# Altium footprint library Adams Altium Library.PcbLib: 250 footprints (part 13 of 16)
Each footprint in its own frame and in the unit in brackets; x right, y up, seen from the top. Pads: shape width x height; smd on the part's side, far side on the other; paste and mask are expansions set on the pad; w line width, h text height; cw(c..) or ccw(c..) is an arc to the next point about the centre after c.
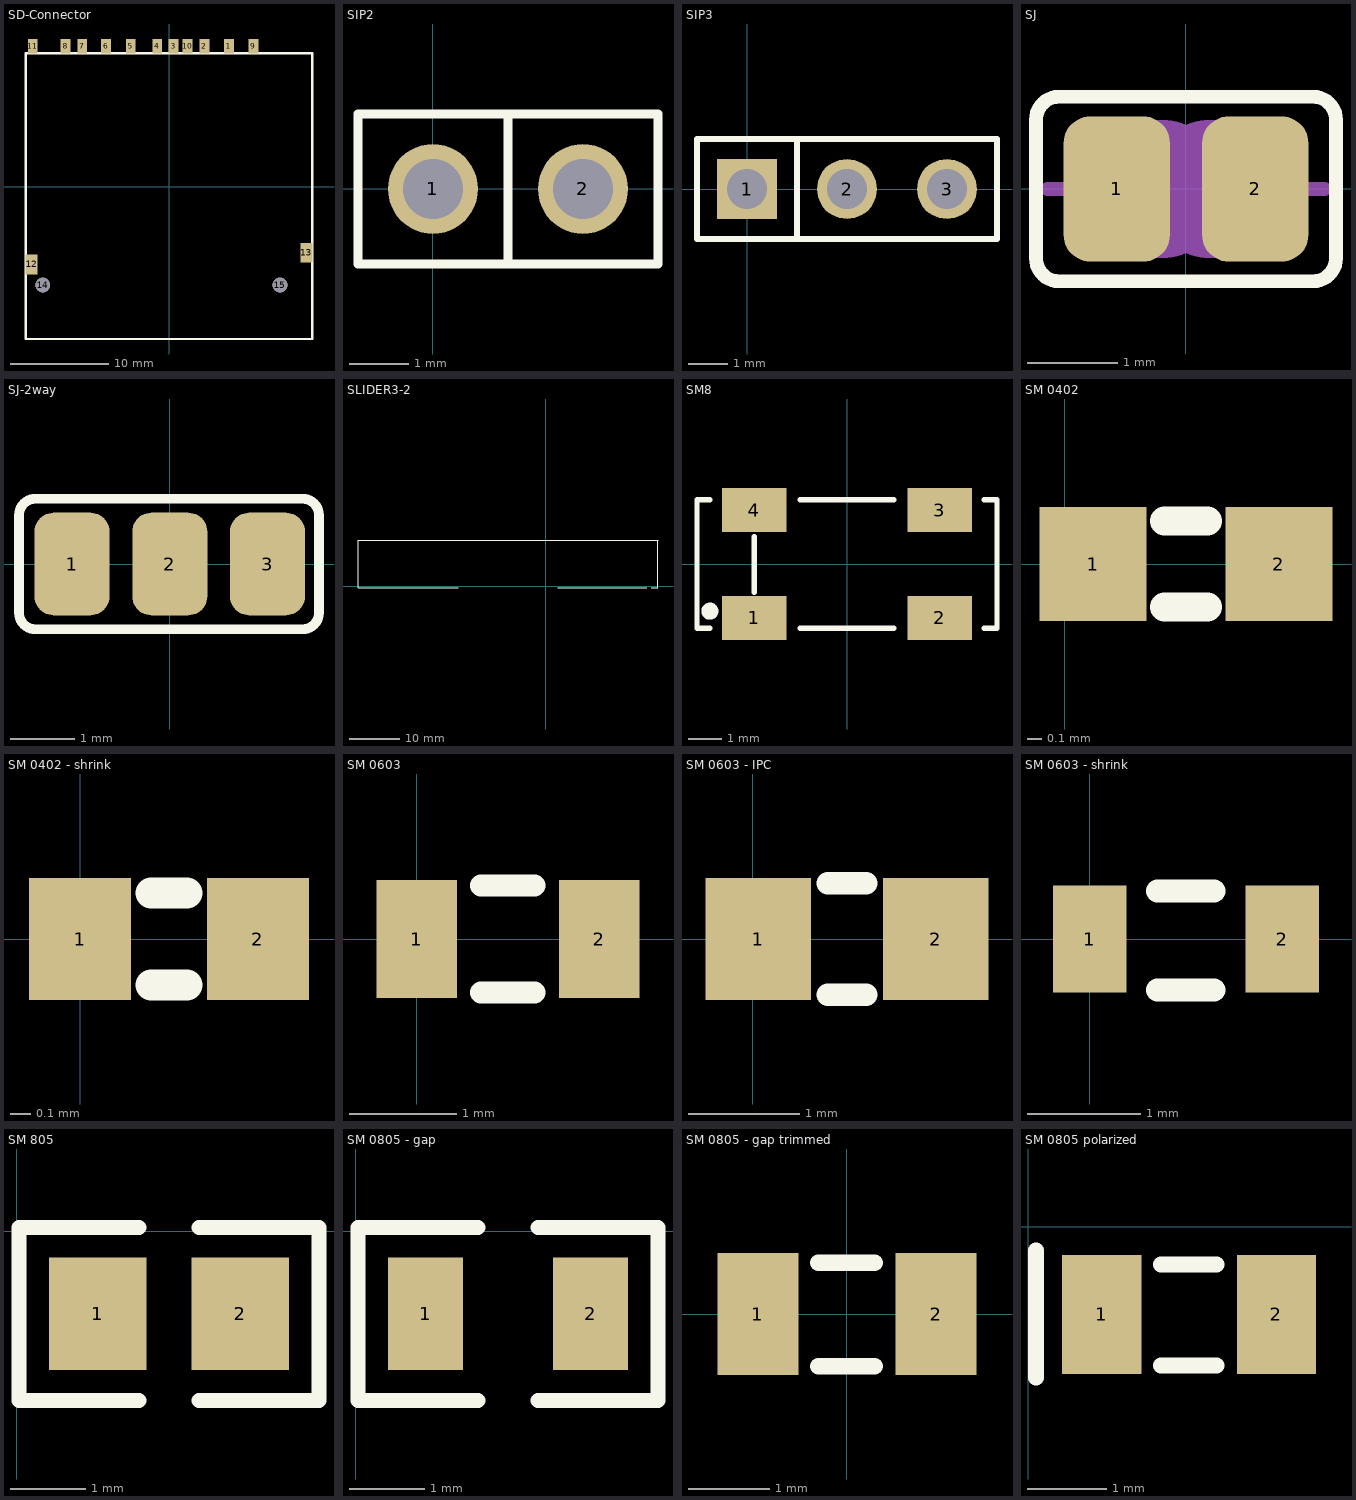
[diagram p12: the footprints below, top view; thin cyan lines are the x and y axes]

## SD-Connector [mm]
pads (15):
  rect 1x1.5 smd: 1(6.1,14.3) 2(3.6,14.3) 3(0.46,14.3) 4(-1.19,14.3) 5(-3.9,14.3) 6(-6.4,14.3) 7(-8.83,14.3) 8(-10.53,14.3) 9(8.6,14.3) 10(1.9,14.3) 11(-13.88,14.3)
  rect 1.2x2 smd: 12(-14,-7.91) 13(14,-6.71)
  round 1.5 hole 1.5 paste-99 mask-99: 14(-12.85,-10.01) 15(11.3,-10.01)
Top Overlay:
  lines w0.254: -14.6,-15.5 -14.6,13.6 14.6,13.6 14.6,-15.5 -14.6,-15.5
3D body: height 2.95, standoff 0, extent -14.727,-15.627 14.727,13.727

## SIP2 [mil]
pads (2):
  round 60 hole 40: 1(0,0) 2(100,0)
Top Overlay:
  lines w6: 50.04,-50.04 50.04,49.96 ; -49.96,-50.04 -49.96,49.96 150.04,49.96 150.04,-50.04 -49.96,-50.04

## SIP3 [mil]
pads (3):
  rect 60x60 hole 40: 1(0,0)
  round 60 hole 40: 2(100,0) 3(200,0)
Top Overlay:
  lines w6: 50,-50 50,50 ; -50,-50 250,-50 250,50 -50,50 -50,-50

## SJ [mil]
pads (2):
  rrect50% 46x63 smd: 1(-30,0) 2(30,0)
Top Overlay:
  lines w6: -65,-30 ccw(c-55,-30) -55,-40 55,-40 ccw(c55,-30) 65,-30 65,30 ccw(c55,30) 55,40 -55,40 ccw(c-55,30) -65,30 -65,-30
Top Solder:
  rectangle: -3,-36 3,36
Mechanical 16:
  lines w6: -60,0 -40,0 ; 40,0 60,0
  lines w50: -10,-5 cw(c-10,0) -10,5 ; 10,-5 ccw(c10,0) 10,5
3D body: height 3.94, standoff 0, extent 6.89,-31.5 53.15,30.51
3D body: height 3.94, standoff 0, extent -53.15,-30.51 -6.89,31.5

## SJ-2way [mil]
pads (3):
  rrect50% 46x63 smd: 1(-60,0) 2(0,0) 3(60,0)
Top Overlay:
  lines w6: -82.68,-40 80.71,-40 ; -82.68,40 80.71,40 ; -82.56,-40 cw(c-82.56,-30) -92.56,-30 -92.56,30 cw(c-82.56,30) -82.56,40 ; 81.57,-40 ccw(c81.57,-30) 91.57,-30 91.57,30 ccw(c81.57,30) 81.57,40
Top Solder:
  rectangle: -52.17,-35.43 55.12,35.43
Mechanical 16:
  lines w6: -60,0 -40,0 ; 40,0 60,0
3D body: height 3.94, standoff 0, extent -23.13,-30.51 23.13,31.5
3D body: height 3.94, standoff 0, extent -83.17,-30.51 -36.91,31.5
3D body: height 3.94, standoff 0, extent 36.91,-30.51 83.17,31.5

## SLIDER3-2 [mm]
Top Overlay:
  lines w0.127: -36.286,9.239 -37.586,9.239 ; -35.306,9.239 -17.506,9.239 ; -17.486,-0.261 -37.586,-0.261 -37.586,9.239 ; -16.51,9.239 1.29,9.239 ; 2.314,9.239 22.414,9.239 -37.586,9.239 ; 2.379,-0.261 20.179,-0.261 ; 21.111,-0.255 22.411,-0.255 22.411,9.245

## SM8 [mm]
pads (4):
  rect 1.9x1.3 smd: 1(-2.75,-1.6) 2(2.75,-1.6) 3(2.75,1.6) 4(-2.75,1.6)
Top Overlay:
  circle w0.254: c-4.064,-1.397 r0.127
  lines w0.152: -4.064,-1.905 -4.445,-1.905 -4.445,1.905 -4.064,1.905 ; -2.75,-0.838 -2.75,0.813 ; -1.397,-1.905 1.397,-1.905 ; -1.397,1.905 1.397,1.905 ; 4.064,-1.905 4.445,-1.905 4.445,-1.651 4.445,1.651 4.445,1.905 4.064,1.905

## SM 0402 [mm]
pads (2):
  rect 0.75x0.8 smd: 1(0.2,0) 2(1.5,0)
Top Overlay:
  lines w0.203: 0.7,-0.3 1,-0.3 ; 0.7,0.3 1,0.3

## SM 0402 - shrink [mm]
pads (2):
  rect 0.5x0.6 smd mask+0.051: 1(0,0) 2(0.875,0)
Top Overlay:
  lines w0.152: 0.35,-0.225 0.525,-0.225 ; 0.35,0.225 0.525,0.225

## SM 0603 [mm]
pads (2):
  rect 0.75x1.1 smd: 1(0,0) 2(1.704,0)
Top Overlay:
  lines w0.203: 0.6,-0.5 1.1,-0.5 ; 0.6,0.5 1.1,0.5

## SM 0603 - IPC [mm]
pads (2):
  rect 0.95x1.1 smd: 1(0.05,0) 2(1.65,0)
Top Overlay:
  lines w0.203: 0.675,-0.5 1.025,-0.5 ; 0.675,0.5 1.025,0.5

## SM 0603 - shrink [mm]
pads (2):
  rect 0.65x0.95 smd: 1(0,0) 2(1.704,0)
Top Overlay:
  lines w0.203: 0.6,-0.45 1.1,-0.45 ; 0.6,0.425 1.1,0.425

## SM 805 [mm]
pads (2):
  rect 1.3x1.5 smd: 1(1.079,-1.105) 2(2.979,-1.105)
Top Overlay:
  lines w0.2: 1.629,-2.255 0.029,-2.255 0.029,0.045 1.629,0.045 ; 2.429,-2.255 4.029,-2.255 4.029,0.045 2.429,0.045

## SM 0805 - gap [mm]
pads (2):
  rect 1x1.5 smd: 1(0.93,-1.105) 2(3.13,-1.105)
Top Overlay:
  lines w0.2: 1.629,-2.255 0.029,-2.255 0.029,0.045 1.629,0.045 ; 2.429,-2.255 4.029,-2.255 4.029,0.045 2.429,0.045

## SM 0805 - gap trimmed [mm]
pads (2):
  rect 1x1.5 smd: 1(-1.1,0) 2(1.1,0)
Top Overlay:
  lines w0.203: -0.355,-0.645 0.345,-0.645 ; -0.355,0.63 0.345,0.63

## SM 0805 polarized [mm]
pads (2):
  rect 1x1.5 smd: 1(0.93,-1.105) 2(3.13,-1.105)
Top Overlay:
  lines w0.203: 0.1,-1.9 0.1,-0.3 ; 1.675,-1.75 2.375,-1.75 ; 1.675,-0.475 2.375,-0.475